# Altium integrated library BS500.IntLib: 1 symbol
Pins are listed as number, name and electrical type; pins without a type are passive.

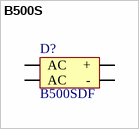
[diagram p0: symbol B500S]

## B500S
designator D?, comment B500SDF
ID: B500SDF; PRICE: 0,5 z³; PDF: *
footprint SDIP_4L (SDIP)
pins: 1 +, 2 -, 3 AC, 4 AC